# Altium integrated library Analog Devices Data Converters Digital-to-Analog Converters.IntLib: 2231 symbols (part 132 of 181)
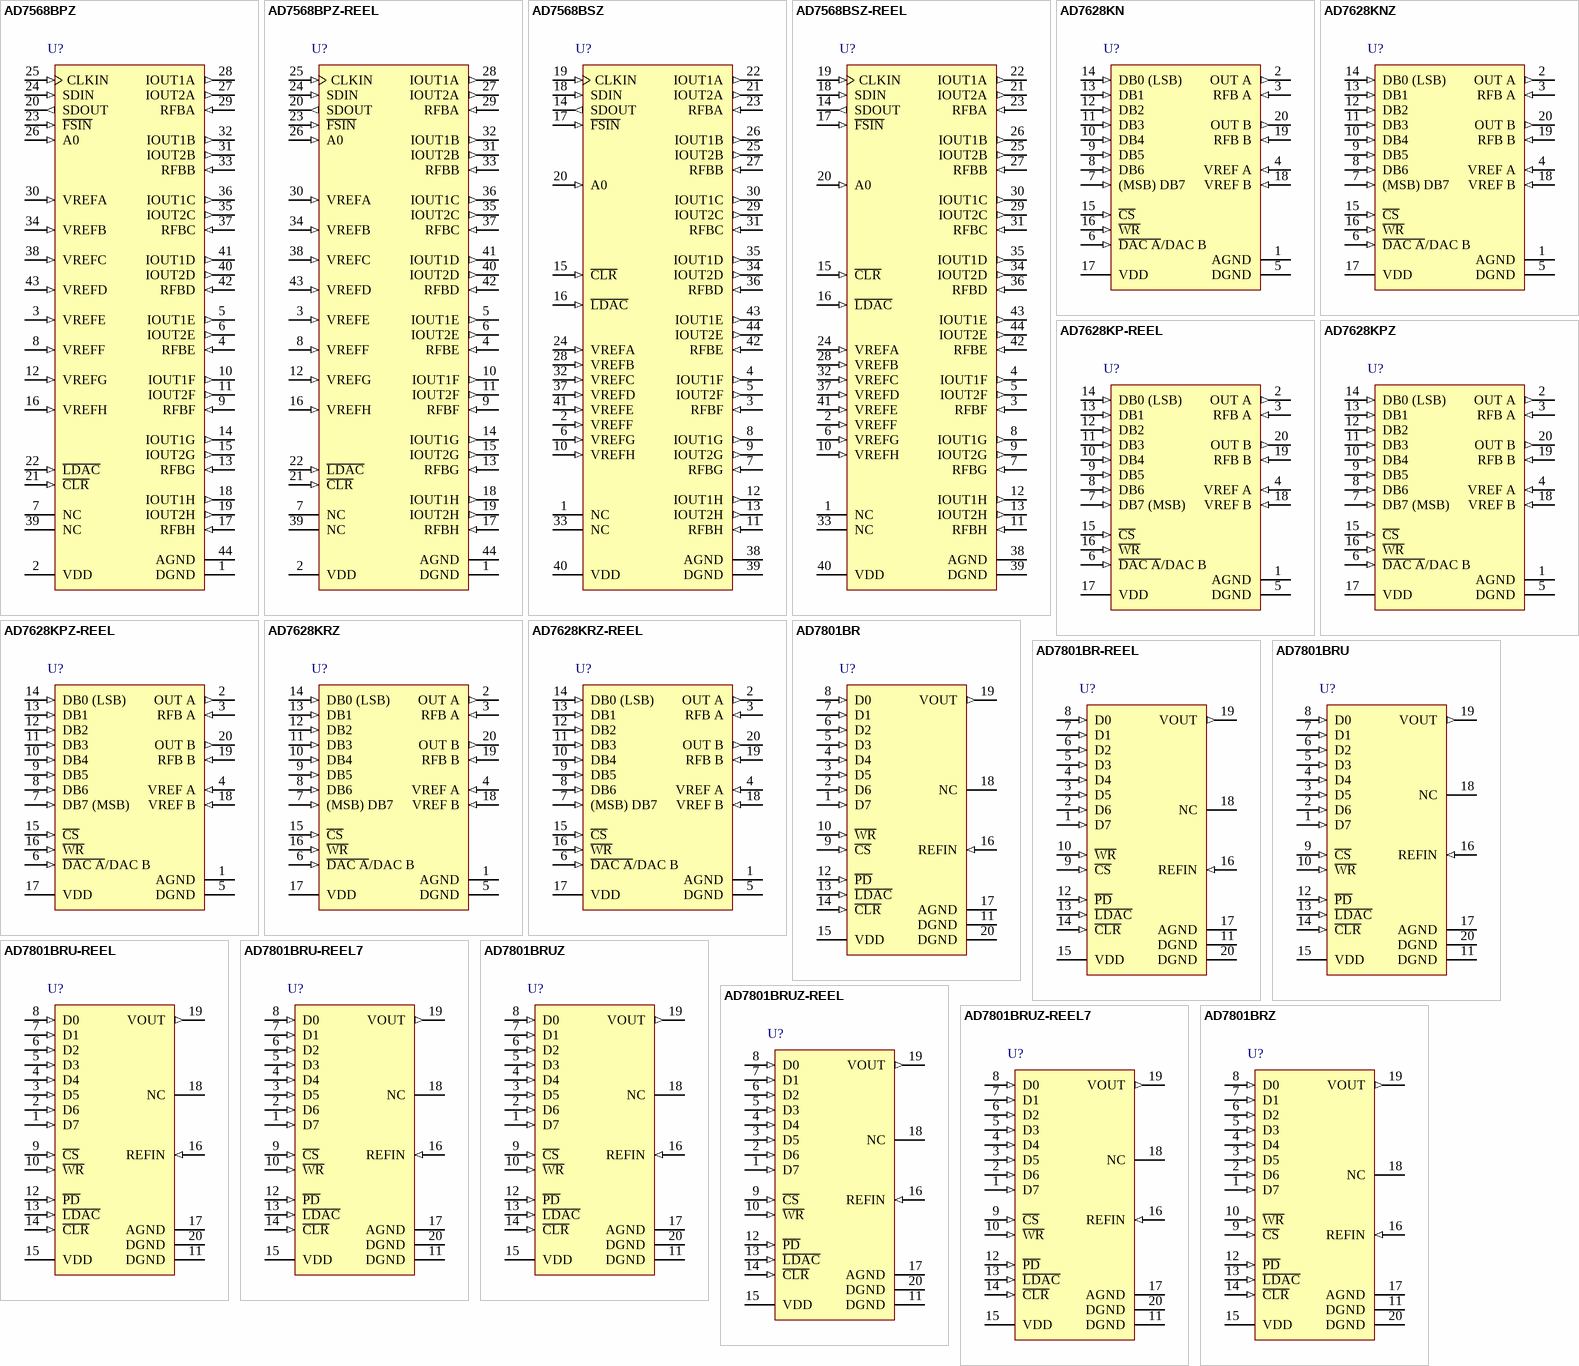
[diagram p245: symbols AD7568BPZ to AD7801BRZ]

## AD7801BR
designator U?
Single 8-Bit Voltage Output Digital-to-Analog Converter with Parallel Interface, 2.7 to 5.5 V, -40 to +105 degC, RW-20, Tube; Generic Part Number: AD7801; Manufacturer: Analog Devices; PartNumber: AD7801BR; # DAC Outputs: 1; Max V+: 5.5V; Op Pwr Diss: 12.9mW; Resolution (Bits): 8; Settling Time: 1.2µs; Single Supply: Yes; DatasheetVersion: Rev.0; PackageVersion: 060706-A; PackageReference: RW-20; PackageDescription: 20-Lead Standard Small Outline Package [SOIC_W] Wide Body; Supplier 1: Digi-Key; Supplier Part Number 1: AD7801BR-ND; Supplier 2: Mouser; Supplier Part Number 2: 584-AD7801BR; Packing: Tube; RoHS: N; Mounting Technology: Surface Mount; Code_JEDEC: MS-013-AC; ComponentLink1Description: Manufacturer URL; ComponentLink1URL: http://www.analog.com/en/index.html; ComponentLink2Description: Datasheet; ComponentLink2URL: http://www.analog.com/static/imported-files/data_sheets/AD7801.pdf; ComponentLink3Description: Package Specification; ComponentLink3URL: http://www.analog.com/static/imported-files/packages/233848RW_20.pdf; ComponentLink4Description: Product URL; ComponentLink4URL: http://www.analog.com/en/digital-to-analog-converters/da-converters/ad7801/products/product.html
footprint RW-20_N (SOIC, 20-Leads, Body 12.8x7.5mm, Pitch 1.27mm, IPC Medium Density)
footprint RW-20_L (SOIC, 20-Leads, Body 12.8x7.5mm, Pitch 1.27mm, IPC High Density)
footprint RW-20_M (SOIC, 20-Leads, Body 12.8x7.5mm, Pitch 1.27mm, IPC Low Density)
pins: 1 D7 (in) "Parallel Data Inputs. 8-bit data is loaded to the input register of the AD7801 under the control of C\S\ and W\R\.", 2 D6 (in) "Parallel Data Inputs. 8-bit data is loaded to the input register of the AD7801 under the control of C\S\ and W\R\.", 3 D5 (in) "Parallel Data Inputs. 8-bit data is loaded to the input register of the AD7801 under the control of C\S\ and W\R\.", 4 D4 (in) "Parallel Data Inputs. 8-bit data is loaded to the input register of the AD7801 under the control of C\S\ and W\R\.", 5 D3 (in) "Parallel Data Inputs. 8-bit data is loaded to the input register of the AD7801 under the control of C\S\ and W\R\.", 6 D2 (in) "Parallel Data Inputs. 8-bit data is loaded to the input register of the AD7801 under the control of C\S\ and W\R\.", 7 D1 (in) "Parallel Data Inputs. 8-bit data is loaded to the input register of the AD7801 under the control of C\S\ and W\R\.", 8 D0 (in) "Parallel Data Inputs. 8-bit data is loaded to the input register of the AD7801 under the control of C\S\ and W\R\.", 9 ~{CS} (in) "Chip Select. Active low logic input.", 10 ~{WR} (in) "Write Input. W\R\ is an active low logic input used in conjunction with C\S\ to write data to the input register.", 11 DGND (power) "Digital Ground", 12 ~{PD} (in) "Active low input used to put the part into low power mode reducing current consumption to less than 1 µA.", 13 ~{LDAC} (in) "Load DAC Logic Input. When this logic input is taken low the DAC output is updated with the contents of its DAC register. If L\D\A\C\ is permanently tied low the DAC is updated on the rising edge of W\R\.", 14 ~{CLR} (in) "Asynchronous Clear Input (Active Low). When this input is taken low the DAC register is loaded with all zeroes and the DAC output is cleared to zero volts.", 15 VDD (power) "Power Supply Input. This part can be operated from +2.7 V to +5.5 V and should be decoupled to GND.", 16 REFIN (in) "External Reference Input. This can be used as the reference for the DAC. The range on this reference input is 1 V to VDD/2. If REFIN is tied directly to VDD the internal VDD/2 reference is selected.", 17 AGND (power) "Analog Ground reference point and return point for all analog current on the part.", 18 NC "No Connect Pin.", 19 VOUT (out) "Analog Output Voltage from the DAC. The output amplifier can swing rail to rail on its output.", 20 DGND (power) "Digital Ground reference point and return point for all digital current on the part."

## AD7801BR-REEL
designator U?
Single 8-Bit Voltage Output Digital-to-Analog Converter with Parallel Interface, 2.7 to 5.5 V, -40 to +105 degC, RW-20, Reel; Generic Part Number: AD7801; Manufacturer: Analog Devices; PartNumber: AD7801BR-REEL; # DAC Outputs: 1; Max V+: 5.5V; Op Pwr Diss: 12.9mW; Resolution (Bits): 8; Settling Time: 1.2µs; Single Supply: Yes; DatasheetVersion: Rev.0; PackageVersion: 060706-A; PackageReference: RW-20; PackageDescription: 20-Lead Standard Small Outline Package [SOIC_W] Wide Body; Supplier 1: Mouser; Supplier Part Number 1: N/A; Packing: Reel; RoHS: N; Mounting Technology: Surface Mount; Code_JEDEC: MS-013-AC; ComponentLink1Description: Manufacturer URL; ComponentLink1URL: http://www.analog.com/en/index.html; ComponentLink2Description: Datasheet; ComponentLink2URL: http://www.analog.com/static/imported-files/data_sheets/AD7801.pdf; ComponentLink3Description: Package Specification; ComponentLink3URL: http://www.analog.com/static/imported-files/packages/233848RW_20.pdf; ComponentLink4Description: Product URL; ComponentLink4URL: http://www.analog.com/en/digital-to-analog-converters/da-converters/ad7801/products/product.html
footprint RW-20_N (SOIC, 20-Leads, Body 12.8x7.5mm, Pitch 1.27mm, IPC Medium Density)
footprint RW-20_L (SOIC, 20-Leads, Body 12.8x7.5mm, Pitch 1.27mm, IPC High Density)
footprint RW-20_M (SOIC, 20-Leads, Body 12.8x7.5mm, Pitch 1.27mm, IPC Low Density)
pins: 1 D7 (in) "Parallel Data Inputs. 8-bit data is loaded to the input register of the AD7801 under the control of C\S\ and W\R\.", 2 D6 (in) "Parallel Data Inputs. 8-bit data is loaded to the input register of the AD7801 under the control of C\S\ and W\R\.", 3 D5 (in) "Parallel Data Inputs. 8-bit data is loaded to the input register of the AD7801 under the control of C\S\ and W\R\.", 4 D4 (in) "Parallel Data Inputs. 8-bit data is loaded to the input register of the AD7801 under the control of C\S\ and W\R\.", 5 D3 (in) "Parallel Data Inputs. 8-bit data is loaded to the input register of the AD7801 under the control of C\S\ and W\R\.", 6 D2 (in) "Parallel Data Inputs. 8-bit data is loaded to the input register of the AD7801 under the control of C\S\ and W\R\.", 7 D1 (in) "Parallel Data Inputs. 8-bit data is loaded to the input register of the AD7801 under the control of C\S\ and W\R\.", 8 D0 (in) "Parallel Data Inputs. 8-bit data is loaded to the input register of the AD7801 under the control of C\S\ and W\R\.", 9 ~{CS} (in) "Chip Select. Active low logic input.", 10 ~{WR} (in) "Write Input. W\R\ is an active low logic input used in conjunction with C\S\ to write data to the input register.", 11 DGND (power) "Digital Ground", 12 ~{PD} (in) "Active low input used to put the part into low power mode reducing current consumption to less than 1 µA.", 13 ~{LDAC} (in) "Load DAC Logic Input. When this logic input is taken low the DAC output is updated with the contents of its DAC register. If L\D\A\C\ is permanently tied low the DAC is updated on the rising edge of W\R\.", 14 ~{CLR} (in) "Asynchronous Clear Input (Active Low). When this input is taken low the DAC register is loaded with all zeroes and the DAC output is cleared to zero volts.", 15 VDD (power) "Power Supply Input. This part can be operated from +2.7 V to +5.5 V and should be decoupled to GND.", 16 REFIN (in) "External Reference Input. This can be used as the reference for the DAC. The range on this reference input is 1 V to VDD/2. If REFIN is tied directly to VDD the internal VDD/2 reference is selected.", 17 AGND (power) "Analog Ground reference point and return point for all analog current on the part.", 18 NC "No Connect Pin.", 19 VOUT (out) "Analog Output Voltage from the DAC. The output amplifier can swing rail to rail on its output.", 20 DGND (power) "Digital Ground reference point and return point for all digital current on the part."

## AD7801BRU
designator U?
Single 8-Bit Voltage Output Digital-to-Analog Converter with Parallel Interface, 2.7 to 5.5 V, -40 to +105 degC, RU-20, Tube; Generic Part Number: AD7801; Manufacturer: Analog Devices; PartNumber: AD7801BRU; # DAC Outputs: 1; Max V+: 5.5V; Op Pwr Diss: 12.9mW; Resolution (Bits): 8; Settling Time: 1.2µs; Single Supply: Yes; DatasheetVersion: Rev.0; PackageVersion: 2000; PackageReference: RU-20; PackageDescription: 20-Lead Thin Shrink Small Outline Package [TSSOP]; Supplier 1: Digi-Key; Supplier Part Number 1: AD7801BRU-ND; Supplier 2: Mouser; Supplier Part Number 2: 584-AD7801BRU; Packing: Tube; RoHS: N; Mounting Technology: Surface Mount; Code_JEDEC: MO-153AC; ComponentLink1Description: Manufacturer URL; ComponentLink1URL: http://www.analog.com/en/index.html; ComponentLink2Description: Datasheet; ComponentLink2URL: http://www.analog.com/static/imported-files/data_sheets/AD7801.pdf; ComponentLink3Description: Package Specification; ComponentLink3URL: http://www.analog.com/static/imported-files/packages/364515793657813558433715854054607941441RU20.pdf; ComponentLink4Description: Product URL; ComponentLink4URL: http://www.analog.com/en/digital-to-analog-converters/da-converters/ad7801/products/product.html
footprint RU-20_N (TSOP, 20-Leads, Body 6.5x4.4mm, Pitch 0.65mm, IPC Medium Density)
footprint RU-20_L (TSOP, 20-Leads, Body 6.5x4.4mm, Pitch 0.65mm, IPC High Density)
footprint RU-20_M (TSOP, 20-Leads, Body 6.5x4.4mm, Pitch 0.65mm, IPC Low Density)
pins: 1 D7 (in) "Parallel Data Inputs. 8-bit data is loaded to the input register of the AD7801 under the control of C\S\ and W\R\.", 2 D6 (in) "Parallel Data Inputs. 8-bit data is loaded to the input register of the AD7801 under the control of C\S\ and W\R\.", 3 D5 (in) "Parallel Data Inputs. 8-bit data is loaded to the input register of the AD7801 under the control of C\S\ and W\R\.", 4 D4 (in) "Parallel Data Inputs. 8-bit data is loaded to the input register of the AD7801 under the control of C\S\ and W\R\.", 5 D3 (in) "Parallel Data Inputs. 8-bit data is loaded to the input register of the AD7801 under the control of C\S\ and W\R\.", 6 D2 (in) "Parallel Data Inputs. 8-bit data is loaded to the input register of the AD7801 under the control of C\S\ and W\R\.", 7 D1 (in) "Parallel Data Inputs. 8-bit data is loaded to the input register of the AD7801 under the control of C\S\ and W\R\.", 8 D0 (in) "Parallel Data Inputs. 8-bit data is loaded to the input register of the AD7801 under the control of C\S\ and W\R\.", 9 ~{CS} (in) "Chip Select. Active low logic input.", 10 ~{WR} (in) "Write Input. W\R\ is an active low logic input used in conjunction with C\S\ to write data to the input register.", 11 DGND (power) "Digital Ground", 12 ~{PD} (in) "Active low input used to put the part into low power mode reducing current consumption to less than 1 uA.", 13 ~{LDAC} (in) "Load DAC Logic Input. When this logic input is taken low the DAC output is updated with the contents of its DAC register. If L\D\A\C\ is permanently tied low the DAC is updated on the rising edge of W\R\.", 14 ~{CLR} (in) "Asynchronous Clear Input (Active Low). When this input is taken low the DAC register is loaded with all zeroes and the DAC output is cleared to zero volts.", 15 VDD (power) "Power Supply Input. This part can be operated from +2.7 V to +5.5 V and should be decoupled to GND.", 16 REFIN (in) "External Reference Input. This can be used as the reference for the DAC. The range on this reference input is 1 V to VDD/2. If REFIN is tied directly to VDD the internal VDD/2 reference is selected.", 17 AGND (power) "Analog Ground reference point and return point for all analog current on the part.", 18 NC "No Connect Pin.", 19 VOUT (out) "Analog Output Voltage from the DAC. The output amplifier can swing rail to rail on its output.", 20 DGND (power) "Digital Ground reference point and return point for all digital current on the part."

## AD7801BRU-REEL
designator U?
Single 8-Bit Voltage Output Digital-to-Analog Converter with Parallel Interface, 2.7 to 5.5 V, -40 to +105 degC, RU-20, Reel; Generic Part Number: AD7801; Manufacturer: Analog Devices; PartNumber: AD7801BRU-REEL; # DAC Outputs: 1; Max V+: 5.5V; Op Pwr Diss: 12.9mW; Resolution (Bits): 8; Settling Time: 1.2µs; Single Supply: Yes; DatasheetVersion: Rev.0; PackageVersion: 2000; PackageReference: RU-20; PackageDescription: 20-Lead Thin Shrink Small Outline Package [TSSOP]; Supplier 1: Mouser; Supplier Part Number 1: N/A; Packing: Reel; RoHS: N; Mounting Technology: Surface Mount; Code_JEDEC: MO-153AC; ComponentLink1Description: Manufacturer URL; ComponentLink1URL: http://www.analog.com/en/index.html; ComponentLink2Description: Datasheet; ComponentLink2URL: http://www.analog.com/static/imported-files/data_sheets/AD7801.pdf; ComponentLink3Description: Package Specification; ComponentLink3URL: http://www.analog.com/static/imported-files/packages/364515793657813558433715854054607941441RU20.pdf; ComponentLink4Description: Product URL; ComponentLink4URL: http://www.analog.com/en/digital-to-analog-converters/da-converters/ad7801/products/product.html
footprint RU-20_N (TSOP, 20-Leads, Body 6.5x4.4mm, Pitch 0.65mm, IPC Medium Density)
footprint RU-20_L (TSOP, 20-Leads, Body 6.5x4.4mm, Pitch 0.65mm, IPC High Density)
footprint RU-20_M (TSOP, 20-Leads, Body 6.5x4.4mm, Pitch 0.65mm, IPC Low Density)
pins: 1 D7 (in) "Parallel Data Inputs. 8-bit data is loaded to the input register of the AD7801 under the control of C\S\ and W\R\.", 2 D6 (in) "Parallel Data Inputs. 8-bit data is loaded to the input register of the AD7801 under the control of C\S\ and W\R\.", 3 D5 (in) "Parallel Data Inputs. 8-bit data is loaded to the input register of the AD7801 under the control of C\S\ and W\R\.", 4 D4 (in) "Parallel Data Inputs. 8-bit data is loaded to the input register of the AD7801 under the control of C\S\ and W\R\.", 5 D3 (in) "Parallel Data Inputs. 8-bit data is loaded to the input register of the AD7801 under the control of C\S\ and W\R\.", 6 D2 (in) "Parallel Data Inputs. 8-bit data is loaded to the input register of the AD7801 under the control of C\S\ and W\R\.", 7 D1 (in) "Parallel Data Inputs. 8-bit data is loaded to the input register of the AD7801 under the control of C\S\ and W\R\.", 8 D0 (in) "Parallel Data Inputs. 8-bit data is loaded to the input register of the AD7801 under the control of C\S\ and W\R\.", 9 ~{CS} (in) "Chip Select. Active low logic input.", 10 ~{WR} (in) "Write Input. W\R\ is an active low logic input used in conjunction with C\S\ to write data to the input register.", 11 DGND (power) "Digital Ground", 12 ~{PD} (in) "Active low input used to put the part into low power mode reducing current consumption to less than 1 uA.", 13 ~{LDAC} (in) "Load DAC Logic Input. When this logic input is taken low the DAC output is updated with the contents of its DAC register. If L\D\A\C\ is permanently tied low the DAC is updated on the rising edge of W\R\.", 14 ~{CLR} (in) "Asynchronous Clear Input (Active Low). When this input is taken low the DAC register is loaded with all zeroes and the DAC output is cleared to zero volts.", 15 VDD (power) "Power Supply Input. This part can be operated from +2.7 V to +5.5 V and should be decoupled to GND.", 16 REFIN (in) "External Reference Input. This can be used as the reference for the DAC. The range on this reference input is 1 V to VDD/2. If REFIN is tied directly to VDD the internal VDD/2 reference is selected.", 17 AGND (power) "Analog Ground reference point and return point for all analog current on the part.", 18 NC "No Connect Pin.", 19 VOUT (out) "Analog Output Voltage from the DAC. The output amplifier can swing rail to rail on its output.", 20 DGND (power) "Digital Ground reference point and return point for all digital current on the part."

## AD7801BRU-REEL7
designator U?
Single 8-Bit Voltage Output Digital-to-Analog Converter with Parallel Interface, 2.7 to 5.5 V, -40 to +105 degC, RU-20, Reel; Generic Part Number: AD7801; Manufacturer: Analog Devices; PartNumber: AD7801BRU-REEL7; # DAC Outputs: 1; Max V+: 5.5V; Op Pwr Diss: 12.9mW; Resolution (Bits): 8; Settling Time: 1.2µs; Single Supply: Yes; DatasheetVersion: Rev.0; PackageVersion: 2000; PackageReference: RU-20; PackageDescription: 20-Lead Thin Shrink Small Outline Package [TSSOP]; Supplier 1: Digi-Key; Supplier Part Number 1: AD7801BRU-REEL7-ND; Supplier 2: Newark; Supplier Part Number 2: 09B5961; Supplier 3: Mouser; Supplier Part Number 3: 584-AD7801BRU-R7; Packing: Reel; RoHS: N; Mounting Technology: Surface Mount; Code_JEDEC: MO-153AC; ComponentLink1Description: Manufacturer URL; ComponentLink1URL: http://www.analog.com/en/index.html; ComponentLink2Description: Datasheet; ComponentLink2URL: http://www.analog.com/static/imported-files/data_sheets/AD7801.pdf; ComponentLink3Description: Package Specification; ComponentLink3URL: http://www.analog.com/static/imported-files/packages/364515793657813558433715854054607941441RU20.pdf; ComponentLink4Description: Product URL; ComponentLink4URL: http://www.analog.com/en/digital-to-analog-converters/da-converters/ad7801/products/product.html
footprint RU-20_N (TSOP, 20-Leads, Body 6.5x4.4mm, Pitch 0.65mm, IPC Medium Density)
footprint RU-20_L (TSOP, 20-Leads, Body 6.5x4.4mm, Pitch 0.65mm, IPC High Density)
footprint RU-20_M (TSOP, 20-Leads, Body 6.5x4.4mm, Pitch 0.65mm, IPC Low Density)
pins: 1 D7 (in) "Parallel Data Inputs. 8-bit data is loaded to the input register of the AD7801 under the control of C\S\ and W\R\.", 2 D6 (in) "Parallel Data Inputs. 8-bit data is loaded to the input register of the AD7801 under the control of C\S\ and W\R\.", 3 D5 (in) "Parallel Data Inputs. 8-bit data is loaded to the input register of the AD7801 under the control of C\S\ and W\R\.", 4 D4 (in) "Parallel Data Inputs. 8-bit data is loaded to the input register of the AD7801 under the control of C\S\ and W\R\.", 5 D3 (in) "Parallel Data Inputs. 8-bit data is loaded to the input register of the AD7801 under the control of C\S\ and W\R\.", 6 D2 (in) "Parallel Data Inputs. 8-bit data is loaded to the input register of the AD7801 under the control of C\S\ and W\R\.", 7 D1 (in) "Parallel Data Inputs. 8-bit data is loaded to the input register of the AD7801 under the control of C\S\ and W\R\.", 8 D0 (in) "Parallel Data Inputs. 8-bit data is loaded to the input register of the AD7801 under the control of C\S\ and W\R\.", 9 ~{CS} (in) "Chip Select. Active low logic input.", 10 ~{WR} (in) "Write Input. W\R\ is an active low logic input used in conjunction with C\S\ to write data to the input register.", 11 DGND (power) "Digital Ground", 12 ~{PD} (in) "Active low input used to put the part into low power mode reducing current consumption to less than 1 uA.", 13 ~{LDAC} (in) "Load DAC Logic Input. When this logic input is taken low the DAC output is updated with the contents of its DAC register. If L\D\A\C\ is permanently tied low the DAC is updated on the rising edge of W\R\.", 14 ~{CLR} (in) "Asynchronous Clear Input (Active Low). When this input is taken low the DAC register is loaded with all zeroes and the DAC output is cleared to zero volts.", 15 VDD (power) "Power Supply Input. This part can be operated from +2.7 V to +5.5 V and should be decoupled to GND.", 16 REFIN (in) "External Reference Input. This can be used as the reference for the DAC. The range on this reference input is 1 V to VDD/2. If REFIN is tied directly to VDD the internal VDD/2 reference is selected.", 17 AGND (power) "Analog Ground reference point and return point for all analog current on the part.", 18 NC "No Connect Pin.", 19 VOUT (out) "Analog Output Voltage from the DAC. The output amplifier can swing rail to rail on its output.", 20 DGND (power) "Digital Ground reference point and return point for all digital current on the part."

## AD7801BRUZ
designator U?
Single 8-Bit Voltage Output Digital-to-Analog Converter with Parallel Interface, 2.7 to 5.5 V, -40 to +105 degC, RU-20, Pb-Free, Tube; Generic Part Number: AD7801; Manufacturer: Analog Devices; PartNumber: AD7801BRUZ; # DAC Outputs: 1; Max V+: 5.5V; Op Pwr Diss: 12.9mW; Resolution (Bits): 8; Settling Time: 1.2µs; Single Supply: Yes; DatasheetVersion: Rev.0; PackageVersion: 2000; PackageReference: RU-20; PackageDescription: 20-Lead Thin Shrink Small Outline Package [TSSOP]; Supplier 1: Digi-Key; Supplier Part Number 1: AD7801BRUZ-ND; Supplier 2: Farnell; Supplier Part Number 2: 1319407; Supplier 3: Newark; Supplier Part Number 3: 19M8854; Supplier 4: Mouser; Supplier Part Number 4: 584-AD7801BRUZ; Packing: Tube; RoHS: Y; Mounting Technology: Surface Mount; Code_JEDEC: MO-153AC; ComponentLink1Description: Manufacturer URL; ComponentLink1URL: http://www.analog.com/en/index.html; ComponentLink2Description: Datasheet; ComponentLink2URL: http://www.analog.com/static/imported-files/data_sheets/AD7801.pdf; ComponentLink3Description: Package Specification; ComponentLink3URL: http://www.analog.com/static/imported-files/packages/364515793657813558433715854054607941441RU20.pdf; ComponentLink4Description: Product URL; ComponentLink4URL: http://www.analog.com/en/digital-to-analog-converters/da-converters/ad7801/products/product.html
footprint RU-20_N (TSOP, 20-Leads, Body 6.5x4.4mm, Pitch 0.65mm, IPC Medium Density)
footprint RU-20_L (TSOP, 20-Leads, Body 6.5x4.4mm, Pitch 0.65mm, IPC High Density)
footprint RU-20_M (TSOP, 20-Leads, Body 6.5x4.4mm, Pitch 0.65mm, IPC Low Density)
pins: 1 D7 (in) "Parallel Data Inputs. 8-bit data is loaded to the input register of the AD7801 under the control of C\S\ and W\R\.", 2 D6 (in) "Parallel Data Inputs. 8-bit data is loaded to the input register of the AD7801 under the control of C\S\ and W\R\.", 3 D5 (in) "Parallel Data Inputs. 8-bit data is loaded to the input register of the AD7801 under the control of C\S\ and W\R\.", 4 D4 (in) "Parallel Data Inputs. 8-bit data is loaded to the input register of the AD7801 under the control of C\S\ and W\R\.", 5 D3 (in) "Parallel Data Inputs. 8-bit data is loaded to the input register of the AD7801 under the control of C\S\ and W\R\.", 6 D2 (in) "Parallel Data Inputs. 8-bit data is loaded to the input register of the AD7801 under the control of C\S\ and W\R\.", 7 D1 (in) "Parallel Data Inputs. 8-bit data is loaded to the input register of the AD7801 under the control of C\S\ and W\R\.", 8 D0 (in) "Parallel Data Inputs. 8-bit data is loaded to the input register of the AD7801 under the control of C\S\ and W\R\.", 9 ~{CS} (in) "Chip Select. Active low logic input.", 10 ~{WR} (in) "Write Input. W\R\ is an active low logic input used in conjunction with C\S\ to write data to the input register.", 11 DGND (power) "Digital Ground", 12 ~{PD} (in) "Active low input used to put the part into low power mode reducing current consumption to less than 1 uA.", 13 ~{LDAC} (in) "Load DAC Logic Input. When this logic input is taken low the DAC output is updated with the contents of its DAC register. If L\D\A\C\ is permanently tied low the DAC is updated on the rising edge of W\R\.", 14 ~{CLR} (in) "Asynchronous Clear Input (Active Low). When this input is taken low the DAC register is loaded with all zeroes and the DAC output is cleared to zero volts.", 15 VDD (power) "Power Supply Input. This part can be operated from +2.7 V to +5.5 V and should be decoupled to GND.", 16 REFIN (in) "External Reference Input. This can be used as the reference for the DAC. The range on this reference input is 1 V to VDD/2. If REFIN is tied directly to VDD the internal VDD/2 reference is selected.", 17 AGND (power) "Analog Ground reference point and return point for all analog current on the part.", 18 NC "No Connect Pin.", 19 VOUT (out) "Analog Output Voltage from the DAC. The output amplifier can swing rail to rail on its output.", 20 DGND (power) "Digital Ground reference point and return point for all digital current on the part."

## AD7801BRUZ-REEL
designator U?
Single 8-Bit Voltage Output Digital-to-Analog Converter with Parallel Interface, 2.7 to 5.5 V, -40 to +105 degC, RU-20, Pb-Free, Reel; Generic Part Number: AD7801; Manufacturer: Analog Devices; PartNumber: AD7801BRUZ-REEL; # DAC Outputs: 1; Max V+: 5.5V; Op Pwr Diss: 12.9mW; Resolution (Bits): 8; Settling Time: 1.2µs; Single Supply: Yes; DatasheetVersion: Rev.0; PackageVersion: 2000; PackageReference: RU-20; PackageDescription: 20-Lead Thin Shrink Small Outline Package [TSSOP]; Supplier 1: Digi-Key; Supplier Part Number 1: AD7801BRUZ-REEL-ND; Supplier 2: Mouser; Supplier Part Number 2: 584-AD7801BRUZ-R; Packing: Reel; RoHS: Y; Mounting Technology: Surface Mount; Code_JEDEC: MO-153AC; ComponentLink1Description: Manufacturer URL; ComponentLink1URL: http://www.analog.com/en/index.html; ComponentLink2Description: Datasheet; ComponentLink2URL: http://www.analog.com/static/imported-files/data_sheets/AD7801.pdf; ComponentLink3Description: Package Specification; ComponentLink3URL: http://www.analog.com/static/imported-files/packages/364515793657813558433715854054607941441RU20.pdf; ComponentLink4Description: Product URL; ComponentLink4URL: http://www.analog.com/en/digital-to-analog-converters/da-converters/ad7801/products/product.html
footprint RU-20_N (TSOP, 20-Leads, Body 6.5x4.4mm, Pitch 0.65mm, IPC Medium Density)
footprint RU-20_L (TSOP, 20-Leads, Body 6.5x4.4mm, Pitch 0.65mm, IPC High Density)
footprint RU-20_M (TSOP, 20-Leads, Body 6.5x4.4mm, Pitch 0.65mm, IPC Low Density)
pins: 1 D7 (in) "Parallel Data Inputs. 8-bit data is loaded to the input register of the AD7801 under the control of C\S\ and W\R\.", 2 D6 (in) "Parallel Data Inputs. 8-bit data is loaded to the input register of the AD7801 under the control of C\S\ and W\R\.", 3 D5 (in) "Parallel Data Inputs. 8-bit data is loaded to the input register of the AD7801 under the control of C\S\ and W\R\.", 4 D4 (in) "Parallel Data Inputs. 8-bit data is loaded to the input register of the AD7801 under the control of C\S\ and W\R\.", 5 D3 (in) "Parallel Data Inputs. 8-bit data is loaded to the input register of the AD7801 under the control of C\S\ and W\R\.", 6 D2 (in) "Parallel Data Inputs. 8-bit data is loaded to the input register of the AD7801 under the control of C\S\ and W\R\.", 7 D1 (in) "Parallel Data Inputs. 8-bit data is loaded to the input register of the AD7801 under the control of C\S\ and W\R\.", 8 D0 (in) "Parallel Data Inputs. 8-bit data is loaded to the input register of the AD7801 under the control of C\S\ and W\R\.", 9 ~{CS} (in) "Chip Select. Active low logic input.", 10 ~{WR} (in) "Write Input. W\R\ is an active low logic input used in conjunction with C\S\ to write data to the input register.", 11 DGND (power) "Digital Ground", 12 ~{PD} (in) "Active low input used to put the part into low power mode reducing current consumption to less than 1 uA.", 13 ~{LDAC} (in) "Load DAC Logic Input. When this logic input is taken low the DAC output is updated with the contents of its DAC register. If L\D\A\C\ is permanently tied low the DAC is updated on the rising edge of W\R\.", 14 ~{CLR} (in) "Asynchronous Clear Input (Active Low). When this input is taken low the DAC register is loaded with all zeroes and the DAC output is cleared to zero volts.", 15 VDD (power) "Power Supply Input. This part can be operated from +2.7 V to +5.5 V and should be decoupled to GND.", 16 REFIN (in) "External Reference Input. This can be used as the reference for the DAC. The range on this reference input is 1 V to VDD/2. If REFIN is tied directly to VDD the internal VDD/2 reference is selected.", 17 AGND (power) "Analog Ground reference point and return point for all analog current on the part.", 18 NC "No Connect Pin.", 19 VOUT (out) "Analog Output Voltage from the DAC. The output amplifier can swing rail to rail on its output.", 20 DGND (power) "Digital Ground reference point and return point for all digital current on the part."

## AD7801BRUZ-REEL7
designator U?
Single 8-Bit Voltage Output Digital-to-Analog Converter with Parallel Interface, 2.7 to 5.5 V, -40 to +105 degC, RU-20, Pb-Free, Reel; Generic Part Number: AD7801; Manufacturer: Analog Devices; PartNumber: AD7801BRUZ-REEL7; # DAC Outputs: 1; Max V+: 5.5V; Op Pwr Diss: 12.9mW; Resolution (Bits): 8; Settling Time: 1.2µs; Single Supply: Yes; DatasheetVersion: Rev.0; PackageVersion: 2000; PackageReference: RU-20; PackageDescription: 20-Lead Thin Shrink Small Outline Package [TSSOP]; Supplier 1: Digi-Key; Supplier Part Number 1: AD7801BRUZ-REEL7TR-ND; Supplier 2: Digi-Key; Supplier Part Number 2: AD7801BRUZ-REEL7CT-ND; Supplier 3: Digi-Key; Supplier Part Number 3: AD7801BRUZ-REEL7DKR-ND; Supplier 4: Mouser; Supplier Part Number 4: 584-AD7801BRUZ-R7; Packing: Reel; RoHS: Y; Mounting Technology: Surface Mount; Code_JEDEC: MO-153AC; ComponentLink1Description: Manufacturer URL; ComponentLink1URL: http://www.analog.com/en/index.html; ComponentLink2Description: Datasheet; ComponentLink2URL: http://www.analog.com/static/imported-files/data_sheets/AD7801.pdf; ComponentLink3Description: Package Specification; ComponentLink3URL: http://www.analog.com/static/imported-files/packages/364515793657813558433715854054607941441RU20.pdf; ComponentLink4Description: Product URL; ComponentLink4URL: http://www.analog.com/en/digital-to-analog-converters/da-converters/ad7801/products/product.html
footprint RU-20_N (TSOP, 20-Leads, Body 6.5x4.4mm, Pitch 0.65mm, IPC Medium Density)
footprint RU-20_L (TSOP, 20-Leads, Body 6.5x4.4mm, Pitch 0.65mm, IPC High Density)
footprint RU-20_M (TSOP, 20-Leads, Body 6.5x4.4mm, Pitch 0.65mm, IPC Low Density)
pins: 1 D7 (in) "Parallel Data Inputs. 8-bit data is loaded to the input register of the AD7801 under the control of C\S\ and W\R\.", 2 D6 (in) "Parallel Data Inputs. 8-bit data is loaded to the input register of the AD7801 under the control of C\S\ and W\R\.", 3 D5 (in) "Parallel Data Inputs. 8-bit data is loaded to the input register of the AD7801 under the control of C\S\ and W\R\.", 4 D4 (in) "Parallel Data Inputs. 8-bit data is loaded to the input register of the AD7801 under the control of C\S\ and W\R\.", 5 D3 (in) "Parallel Data Inputs. 8-bit data is loaded to the input register of the AD7801 under the control of C\S\ and W\R\.", 6 D2 (in) "Parallel Data Inputs. 8-bit data is loaded to the input register of the AD7801 under the control of C\S\ and W\R\.", 7 D1 (in) "Parallel Data Inputs. 8-bit data is loaded to the input register of the AD7801 under the control of C\S\ and W\R\.", 8 D0 (in) "Parallel Data Inputs. 8-bit data is loaded to the input register of the AD7801 under the control of C\S\ and W\R\.", 9 ~{CS} (in) "Chip Select. Active low logic input.", 10 ~{WR} (in) "Write Input. W\R\ is an active low logic input used in conjunction with C\S\ to write data to the input register.", 11 DGND (power) "Digital Ground", 12 ~{PD} (in) "Active low input used to put the part into low power mode reducing current consumption to less than 1 uA.", 13 ~{LDAC} (in) "Load DAC Logic Input. When this logic input is taken low the DAC output is updated with the contents of its DAC register. If L\D\A\C\ is permanently tied low the DAC is updated on the rising edge of W\R\.", 14 ~{CLR} (in) "Asynchronous Clear Input (Active Low). When this input is taken low the DAC register is loaded with all zeroes and the DAC output is cleared to zero volts.", 15 VDD (power) "Power Supply Input. This part can be operated from +2.7 V to +5.5 V and should be decoupled to GND.", 16 REFIN (in) "External Reference Input. This can be used as the reference for the DAC. The range on this reference input is 1 V to VDD/2. If REFIN is tied directly to VDD the internal VDD/2 reference is selected.", 17 AGND (power) "Analog Ground reference point and return point for all analog current on the part.", 18 NC "No Connect Pin.", 19 VOUT (out) "Analog Output Voltage from the DAC. The output amplifier can swing rail to rail on its output.", 20 DGND (power) "Digital Ground reference point and return point for all digital current on the part."

## AD7801BRZ
designator U?
Single 8-Bit Voltage Output Digital-to-Analog Converter with Parallel Interface, 2.7 to 5.5 V, -40 to +105 degC, RW-20, Pb-Free, Tube; Generic Part Number: AD7801; Manufacturer: Analog Devices; PartNumber: AD7801BRZ; # DAC Outputs: 1; Max V+: 5.5V; Op Pwr Diss: 12.9mW; Resolution (Bits): 8; Settling Time: 1.2µs; Single Supply: Yes; DatasheetVersion: Rev.0; PackageVersion: 060706-A; PackageReference: RW-20; PackageDescription: 20-Lead Standard Small Outline Package [SOIC_W] Wide Body; Supplier 1: Digi-Key; Supplier Part Number 1: AD7801BRZ-ND; Supplier 2: Farnell; Supplier Part Number 2: 9425829; Supplier 3: Newark; Supplier Part Number 3: 19M0902; Supplier 4: Mouser; Supplier Part Number 4: 584-AD7801BRZ; Packing: Tube; RoHS: Y; Mounting Technology: Surface Mount; Code_JEDEC: MS-013-AC; ComponentLink1Description: Manufacturer URL; ComponentLink1URL: http://www.analog.com/en/index.html; ComponentLink2Description: Datasheet; ComponentLink2URL: http://www.analog.com/static/imported-files/data_sheets/AD7801.pdf; ComponentLink3Description: Package Specification; ComponentLink3URL: http://www.analog.com/static/imported-files/packages/233848RW_20.pdf; ComponentLink4Description: Product URL; ComponentLink4URL: http://www.analog.com/en/digital-to-analog-converters/da-converters/ad7801/products/product.html
footprint RW-20_N (SOIC, 20-Leads, Body 12.8x7.5mm, Pitch 1.27mm, IPC Medium Density)
footprint RW-20_L (SOIC, 20-Leads, Body 12.8x7.5mm, Pitch 1.27mm, IPC High Density)
footprint RW-20_M (SOIC, 20-Leads, Body 12.8x7.5mm, Pitch 1.27mm, IPC Low Density)
pins: 1 D7 (in) "Parallel Data Inputs. 8-bit data is loaded to the input register of the AD7801 under the control of C\S\ and W\R\.", 2 D6 (in) "Parallel Data Inputs. 8-bit data is loaded to the input register of the AD7801 under the control of C\S\ and W\R\.", 3 D5 (in) "Parallel Data Inputs. 8-bit data is loaded to the input register of the AD7801 under the control of C\S\ and W\R\.", 4 D4 (in) "Parallel Data Inputs. 8-bit data is loaded to the input register of the AD7801 under the control of C\S\ and W\R\.", 5 D3 (in) "Parallel Data Inputs. 8-bit data is loaded to the input register of the AD7801 under the control of C\S\ and W\R\.", 6 D2 (in) "Parallel Data Inputs. 8-bit data is loaded to the input register of the AD7801 under the control of C\S\ and W\R\.", 7 D1 (in) "Parallel Data Inputs. 8-bit data is loaded to the input register of the AD7801 under the control of C\S\ and W\R\.", 8 D0 (in) "Parallel Data Inputs. 8-bit data is loaded to the input register of the AD7801 under the control of C\S\ and W\R\.", 9 ~{CS} (in) "Chip Select. Active low logic input.", 10 ~{WR} (in) "Write Input. W\R\ is an active low logic input used in conjunction with C\S\ to write data to the input register.", 11 DGND (power) "Digital Ground", 12 ~{PD} (in) "Active low input used to put the part into low power mode reducing current consumption to less than 1 µA.", 13 ~{LDAC} (in) "Load DAC Logic Input. When this logic input is taken low the DAC output is updated with the contents of its DAC register. If L\D\A\C\ is permanently tied low the DAC is updated on the rising edge of W\R\.", 14 ~{CLR} (in) "Asynchronous Clear Input (Active Low). When this input is taken low the DAC register is loaded with all zeroes and the DAC output is cleared to zero volts.", 15 VDD (power) "Power Supply Input. This part can be operated from +2.7 V to +5.5 V and should be decoupled to GND.", 16 REFIN (in) "External Reference Input. This can be used as the reference for the DAC. The range on this reference input is 1 V to VDD/2. If REFIN is tied directly to VDD the internal VDD/2 reference is selected.", 17 AGND (power) "Analog Ground reference point and return point for all analog current on the part.", 18 NC "No Connect Pin.", 19 VOUT (out) "Analog Output Voltage from the DAC. The output amplifier can swing rail to rail on its output.", 20 DGND (power) "Digital Ground reference point and return point for all digital current on the part."

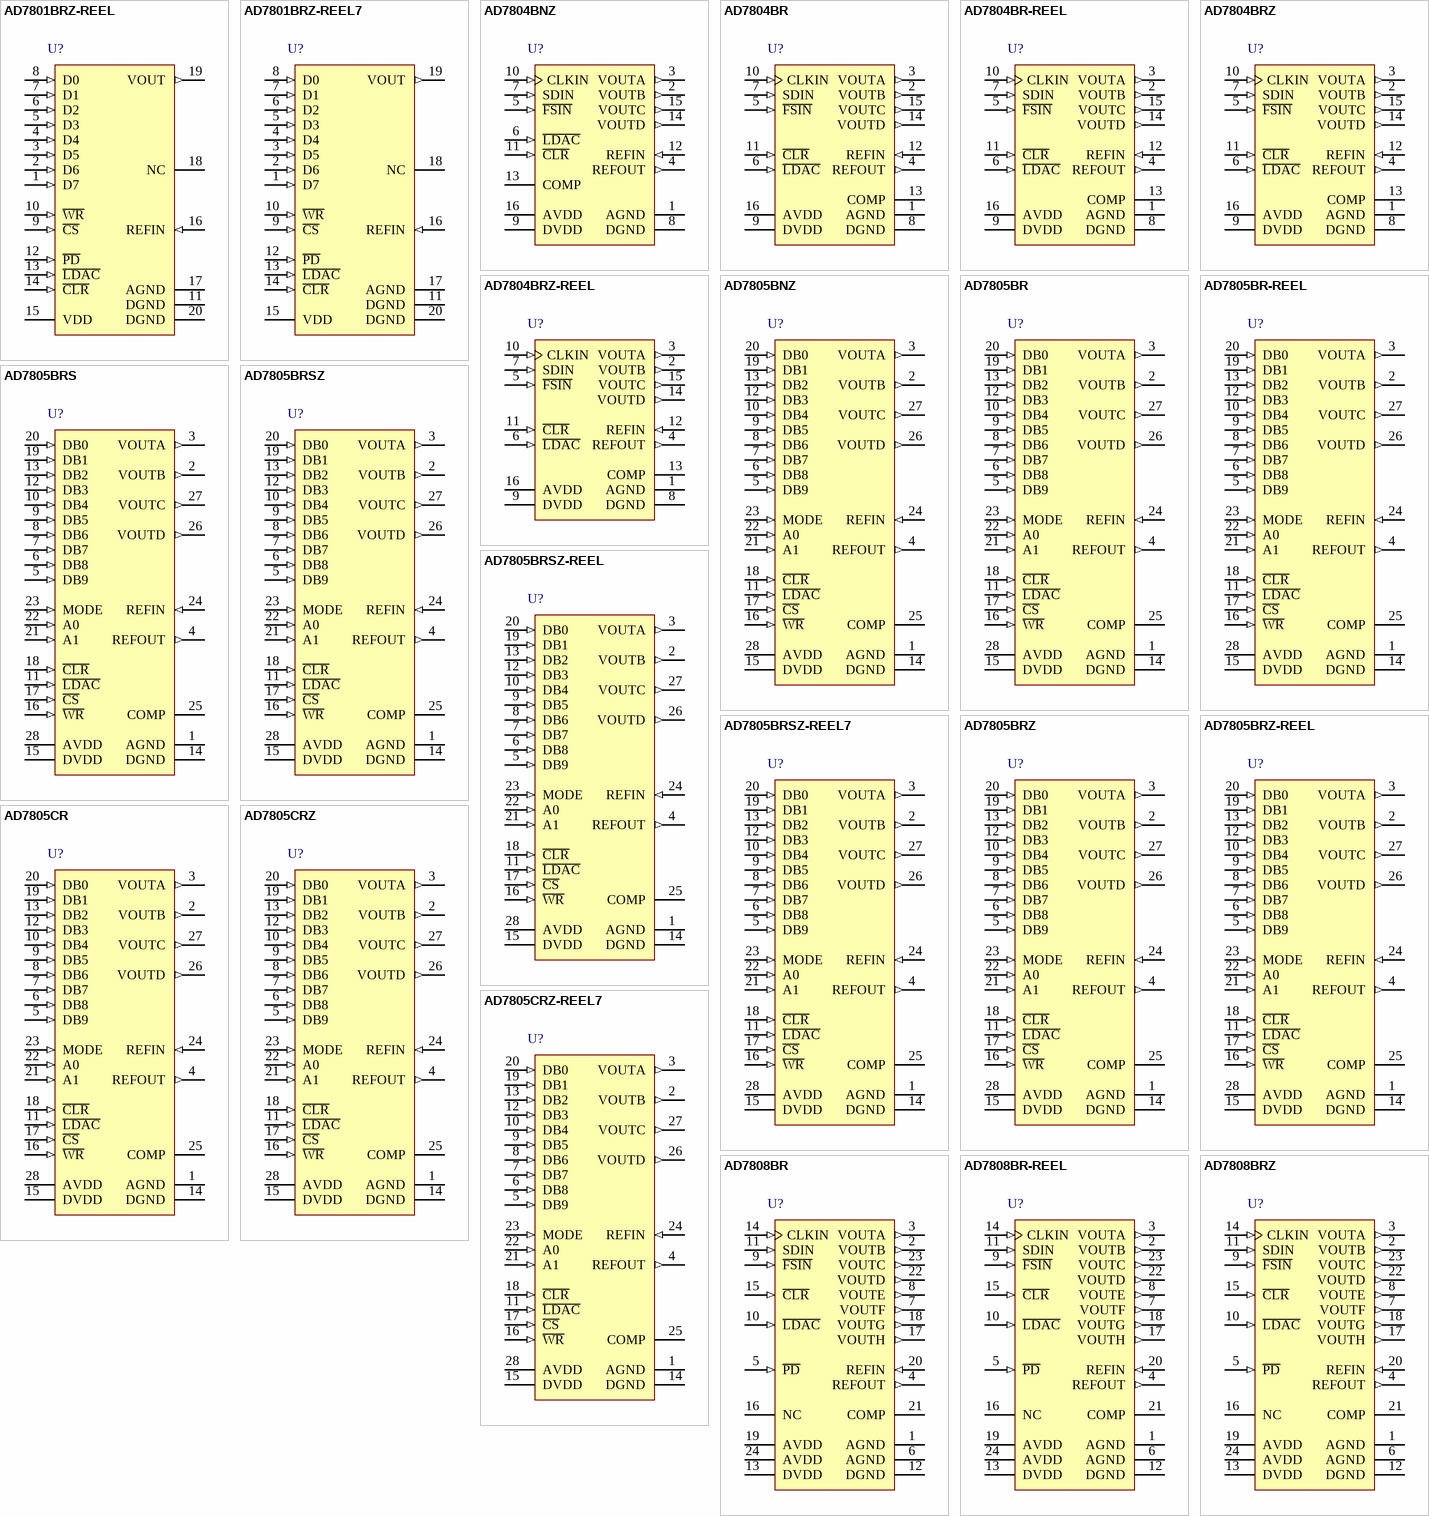
[diagram p73: symbols AD7801BRZ-REEL to AD7808BRZ]

## AD7801BRZ-REEL
designator U?
Single 8-Bit Voltage Output Digital-to-Analog Converter with Parallel Interface, 2.7 to 5.5 V, -40 to +105 degC, RW-20, Pb-Free, Reel; Generic Part Number: AD7801; Manufacturer: Analog Devices; PartNumber: AD7801BRZ-REEL; # DAC Outputs: 1; Max V+: 5.5V; Op Pwr Diss: 12.9mW; Resolution (Bits): 8; Settling Time: 1.2µs; Single Supply: Yes; DatasheetVersion: Rev.0; PackageVersion: 060706-A; PackageReference: RW-20; PackageDescription: 20-Lead Standard Small Outline Package [SOIC_W] Wide Body; Supplier 1: Digi-Key; Supplier Part Number 1: AD7801BRZ-REEL-ND; Supplier 2: Mouser; Supplier Part Number 2: 584-AD7801BRZ-R; Packing: Reel; RoHS: Y; Mounting Technology: Surface Mount; Code_JEDEC: MS-013-AC; ComponentLink1Description: Manufacturer URL; ComponentLink1URL: http://www.analog.com/en/index.html; ComponentLink2Description: Datasheet; ComponentLink2URL: http://www.analog.com/static/imported-files/data_sheets/AD7801.pdf; ComponentLink3Description: Package Specification; ComponentLink3URL: http://www.analog.com/static/imported-files/packages/233848RW_20.pdf; ComponentLink4Description: Product URL; ComponentLink4URL: http://www.analog.com/en/digital-to-analog-converters/da-converters/ad7801/products/product.html
footprint RW-20_N (SOIC, 20-Leads, Body 12.8x7.5mm, Pitch 1.27mm, IPC Medium Density)
footprint RW-20_L (SOIC, 20-Leads, Body 12.8x7.5mm, Pitch 1.27mm, IPC High Density)
footprint RW-20_M (SOIC, 20-Leads, Body 12.8x7.5mm, Pitch 1.27mm, IPC Low Density)
pins: 1 D7 (in) "Parallel Data Inputs. 8-bit data is loaded to the input register of the AD7801 under the control of C\S\ and W\R\.", 2 D6 (in) "Parallel Data Inputs. 8-bit data is loaded to the input register of the AD7801 under the control of C\S\ and W\R\.", 3 D5 (in) "Parallel Data Inputs. 8-bit data is loaded to the input register of the AD7801 under the control of C\S\ and W\R\.", 4 D4 (in) "Parallel Data Inputs. 8-bit data is loaded to the input register of the AD7801 under the control of C\S\ and W\R\.", 5 D3 (in) "Parallel Data Inputs. 8-bit data is loaded to the input register of the AD7801 under the control of C\S\ and W\R\.", 6 D2 (in) "Parallel Data Inputs. 8-bit data is loaded to the input register of the AD7801 under the control of C\S\ and W\R\.", 7 D1 (in) "Parallel Data Inputs. 8-bit data is loaded to the input register of the AD7801 under the control of C\S\ and W\R\.", 8 D0 (in) "Parallel Data Inputs. 8-bit data is loaded to the input register of the AD7801 under the control of C\S\ and W\R\.", 9 ~{CS} (in) "Chip Select. Active low logic input.", 10 ~{WR} (in) "Write Input. W\R\ is an active low logic input used in conjunction with C\S\ to write data to the input register.", 11 DGND (power) "Digital Ground", 12 ~{PD} (in) "Active low input used to put the part into low power mode reducing current consumption to less than 1 µA.", 13 ~{LDAC} (in) "Load DAC Logic Input. When this logic input is taken low the DAC output is updated with the contents of its DAC register. If L\D\A\C\ is permanently tied low the DAC is updated on the rising edge of W\R\.", 14 ~{CLR} (in) "Asynchronous Clear Input (Active Low). When this input is taken low the DAC register is loaded with all zeroes and the DAC output is cleared to zero volts.", 15 VDD (power) "Power Supply Input. This part can be operated from +2.7 V to +5.5 V and should be decoupled to GND.", 16 REFIN (in) "External Reference Input. This can be used as the reference for the DAC. The range on this reference input is 1 V to VDD/2. If REFIN is tied directly to VDD the internal VDD/2 reference is selected.", 17 AGND (power) "Analog Ground reference point and return point for all analog current on the part.", 18 NC "No Connect Pin.", 19 VOUT (out) "Analog Output Voltage from the DAC. The output amplifier can swing rail to rail on its output.", 20 DGND (power) "Digital Ground reference point and return point for all digital current on the part."

## AD7801BRZ-REEL7
designator U?
Single 8-Bit Voltage Output Digital-to-Analog Converter with Parallel Interface, 2.7 to 5.5 V, -40 to +105 degC, RW-20, Pb-Free, Reel; Generic Part Number: AD7801; Manufacturer: Analog Devices; PartNumber: AD7801BRZ-REEL7; # DAC Outputs: 1; Max V+: 5.5V; Op Pwr Diss: 12.9mW; Resolution (Bits): 8; Settling Time: 1.2µs; Single Supply: Yes; DatasheetVersion: Rev.0; PackageVersion: 060706-A; PackageReference: RW-20; PackageDescription: 20-Lead Standard Small Outline Package [SOIC_W] Wide Body; Supplier 1: Digi-Key; Supplier Part Number 1: AD7801BRZ-REEL7-ND; Supplier 2: Mouser; Supplier Part Number 2: 584-AD7801BRZ-R7; Packing: Reel; RoHS: Y; Mounting Technology: Surface Mount; Code_JEDEC: MS-013-AC; ComponentLink1Description: Manufacturer URL; ComponentLink1URL: http://www.analog.com/en/index.html; ComponentLink2Description: Datasheet; ComponentLink2URL: http://www.analog.com/static/imported-files/data_sheets/AD7801.pdf; ComponentLink3Description: Package Specification; ComponentLink3URL: http://www.analog.com/static/imported-files/packages/233848RW_20.pdf; ComponentLink4Description: Product URL; ComponentLink4URL: http://www.analog.com/en/digital-to-analog-converters/da-converters/ad7801/products/product.html
footprint RW-20_N (SOIC, 20-Leads, Body 12.8x7.5mm, Pitch 1.27mm, IPC Medium Density)
footprint RW-20_L (SOIC, 20-Leads, Body 12.8x7.5mm, Pitch 1.27mm, IPC High Density)
footprint RW-20_M (SOIC, 20-Leads, Body 12.8x7.5mm, Pitch 1.27mm, IPC Low Density)
pins: 1 D7 (in) "Parallel Data Inputs. 8-bit data is loaded to the input register of the AD7801 under the control of C\S\ and W\R\.", 2 D6 (in) "Parallel Data Inputs. 8-bit data is loaded to the input register of the AD7801 under the control of C\S\ and W\R\.", 3 D5 (in) "Parallel Data Inputs. 8-bit data is loaded to the input register of the AD7801 under the control of C\S\ and W\R\.", 4 D4 (in) "Parallel Data Inputs. 8-bit data is loaded to the input register of the AD7801 under the control of C\S\ and W\R\.", 5 D3 (in) "Parallel Data Inputs. 8-bit data is loaded to the input register of the AD7801 under the control of C\S\ and W\R\.", 6 D2 (in) "Parallel Data Inputs. 8-bit data is loaded to the input register of the AD7801 under the control of C\S\ and W\R\.", 7 D1 (in) "Parallel Data Inputs. 8-bit data is loaded to the input register of the AD7801 under the control of C\S\ and W\R\.", 8 D0 (in) "Parallel Data Inputs. 8-bit data is loaded to the input register of the AD7801 under the control of C\S\ and W\R\.", 9 ~{CS} (in) "Chip Select. Active low logic input.", 10 ~{WR} (in) "Write Input. W\R\ is an active low logic input used in conjunction with C\S\ to write data to the input register.", 11 DGND (power) "Digital Ground", 12 ~{PD} (in) "Active low input used to put the part into low power mode reducing current consumption to less than 1 µA.", 13 ~{LDAC} (in) "Load DAC Logic Input. When this logic input is taken low the DAC output is updated with the contents of its DAC register. If L\D\A\C\ is permanently tied low the DAC is updated on the rising edge of W\R\.", 14 ~{CLR} (in) "Asynchronous Clear Input (Active Low). When this input is taken low the DAC register is loaded with all zeroes and the DAC output is cleared to zero volts.", 15 VDD (power) "Power Supply Input. This part can be operated from +2.7 V to +5.5 V and should be decoupled to GND.", 16 REFIN (in) "External Reference Input. This can be used as the reference for the DAC. The range on this reference input is 1 V to VDD/2. If REFIN is tied directly to VDD the internal VDD/2 reference is selected.", 17 AGND (power) "Analog Ground reference point and return point for all analog current on the part.", 18 NC "No Connect Pin.", 19 VOUT (out) "Analog Output Voltage from the DAC. The output amplifier can swing rail to rail on its output.", 20 DGND (power) "Digital Ground reference point and return point for all digital current on the part."

## AD7804BNZ
designator U?
Quad 10-Bit Digital-to-Analog Converter, 3.3 to 5 V, 0 to +70 degC, N-16, Pb-Free, Tube; Generic Part Number: AD7804; Manufacturer: Analog Devices; PartNumber: AD7804BNZ; # DAC Outputs: 4; Max V+: 5.5V; Op Pwr Diss: 66mW; Resolution (Bits): 10; Settling Time: 1.5µs; Single Supply: Yes; DatasheetVersion: Rev.A; PackageVersion: 070706-A; PackageReference: N-16; PackageDescription: 16-Lead Plastic Dual In-Line Package [PDIP] Narrow Body; Supplier 1: Digi-Key; Supplier Part Number 1: AD7804BNZ-ND; Supplier 2: Mouser; Supplier Part Number 2: 584-AD7804BNZ; Packing: Tube; RoHS: Y; Mounting Technology: Through Hole; Code_JEDEC: MS-001; ComponentLink1Description: Manufacturer URL; ComponentLink1URL: http://www.analog.com/en/index.html; ComponentLink2Description: Datasheet; ComponentLink2URL: http://www.analog.com/static/imported-files/data_sheets/AD7804_7805_7808_7809.pdf; ComponentLink3Description: Package Specification; ComponentLink3URL: http://www.analog.com/static/imported-files/packages/44768431550332N_16.pdf; ComponentLink4Description: Product URL; ComponentLink4URL: http://www.analog.com/en/digital-to-analog-converters/da-converters/ad7804/products/product.html
footprint N-16 (DIP, 16-Leads, Row Spacing 7.62mm, Pitch 2.54mm, Body 20.1x6.6mm)
pins: 1 AGND (power) "Ground reference point for analog circuitry.", 2 VOUTB (out) "Analog output voltage from the DACs.", 3 VOUTA (out) "Analog output voltage from the DACs.", 4 REFOUT (out) "Reference Output. This is a bandgap reference and is typically 1.23 V.", 5 ~{FSIN} (in) "Level-triggered control input (active low). This is the frame synchronization signal for the input data. When F\S\I\N\ goes low, it enables the input shift register and data is transferred on the falling edges of CLKIN.", 6 ~{LDAC} (in) "L\D\A\C\ Input. When this digital input is taken low, all DAC registers are simultaneously updated with the contents of the data registers. If L\D\A\C\ is tied permanently low, or is low on the sixteenth falling clock edge (See Datasheet)", 7 SDIN (in) "Serial Data Input. These devices accept a 16-bit word. Data is clocked into the input shift register on the falling edge of CLKIN.", 8 DGND (power) "Ground reference point for digital circuitry.", 9 DVDD (power) "Digital Power Supply.", 10 CLKIN (in) "Clock Input. Data is clocked into the input shift register on the falling edges of CLKIN. Duty Cycle should be between 40% and 60%.", 11 ~{CLR} (in) "Asynchronous C\L\R\ Input. When this input is taken low, all Main DAC outputs are cleared either to VBIAS or to VBIAS/16 volts. All Sub DACs are also cleared and thus the transfer function of the Main DAC will remain (See Datasheet)", 12 REFIN (in) "This is an external reference input for the DACs. When this reference is selected for a DAC in the control register, the analog output from the selected DAC swings around this point.", 13 COMP "Compensation Pin. This pin provides an output from the internal VDD/2 divider and is provided for ac bypass purposes only. This pin should be decoupled with 1 nF capacitors to both AVDD and AGND. This pin can be overdriven (See Datasheet)", 14 VOUTD (out) "Analog output voltage from the DACs.", 15 VOUTC (out) "Analog output voltage from the DACs.", 16 AVDD (power) "Analog Power Supply. +3.3 V to +5 V."